# EAGLE library part MMDT3904-7-F (library MMDT3904)
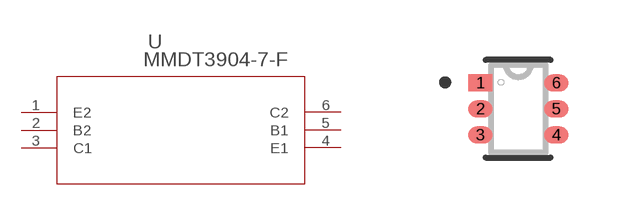
[diagram p0: symbol with the pads of SOT-363; footprint SOT-363]

Designator prefix U

## MMDT3904-7-F (MANUFACTURER_PART_NUMBER: MMDT39047F; VENDOR: Diodes Inc)  [SOT-363]
1  E2  pas
2  B2  pas
3  C1  pas
4  E1  pas
5  B1  pas
6  C2  pas

## Footprint SOT-363 (pad centres in mm)
smd 0.6 x 0.42: 1 -0.95,0.65; 2 -0.95,0; 3 -0.95,-0.65; 4 0.95,-0.65; 5 0.95,0; 6 0.95,0.65